# Altium schematic symbol library ESP32-CAM.SchLib: 1 symbol
Pins are listed as number, name and electrical type; pins without a type are passive.

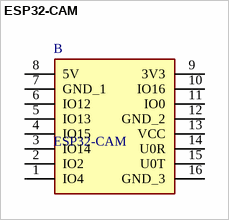
[diagram p0: symbol ESP32-CAM]

## ESP32-CAM
designator B
Modules PCBA Module RoHS; Manufacturer_Name: Ai-Thinker; Geometry.Height: 5mm; Manufacturer_Part_Number: ESP32-CAM; Mouser Part Number: *; Mouser Price/Stock: *; Arrow Part Number: *; Arrow Price/Stock: *; Datasheet Link: https://datasheet.lcsc.com/szlcsc/Ai-Thinker-ESP32-CAM_C277946.pdf
footprint ESP32CAM
pins: 1 IO4, 2 IO2, 3 IO14, 4 IO15, 5 IO13, 6 IO12, 7 GND_1, 8 5V, 9 3V3, 10 IO16, 11 IO0, 12 GND_2, 13 VCC, 14 U0R, 15 U0T, 16 GND_3